# EAGLE library part SW_DIP-4 (library angrypig7-Switches)
DIP SWITCH
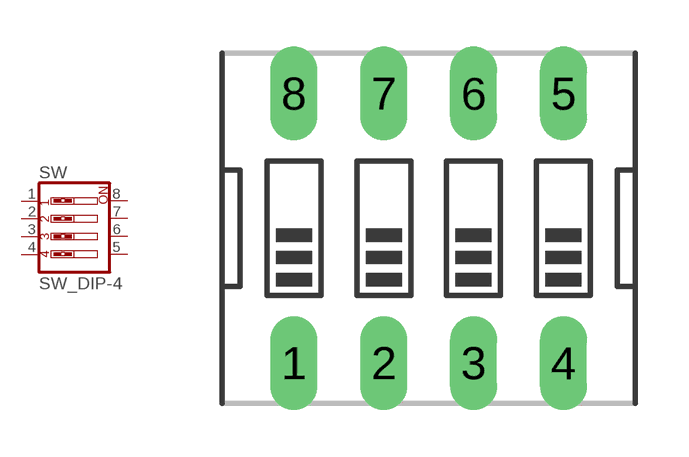
[diagram p7: symbol with the pads of EDG-04; footprint EDG-04]

Designator prefix SW

## SW_DIP-4  [EDG-04]
1  1  pas
2  2  pas
3  3  pas
4  4  pas
5  5  pas
6  6  pas
7  7  pas
8  8  pas

## Footprint EDG-04 (pad centres in mm)
DIP SWITCH
drill 0.813 long: 1 -3.81,-3.81; 2 -1.27,-3.81; 3 1.27,-3.81; 4 3.81,-3.81; 5 3.81,3.81; 6 1.27,3.81; 7 -1.27,3.81; 8 -3.81,3.81